# Altium footprint library ip_phone.PcbLib: 69 footprints (part 4 of 5)
Each footprint in its own frame and in the unit in brackets; x right, y up, seen from the top. Pads: shape width x height; smd on the part's side, far side on the other; paste and mask are expansions set on the pad; w line width, h text height; cw(c..) or ccw(c..) is an arc to the next point about the centre after c.
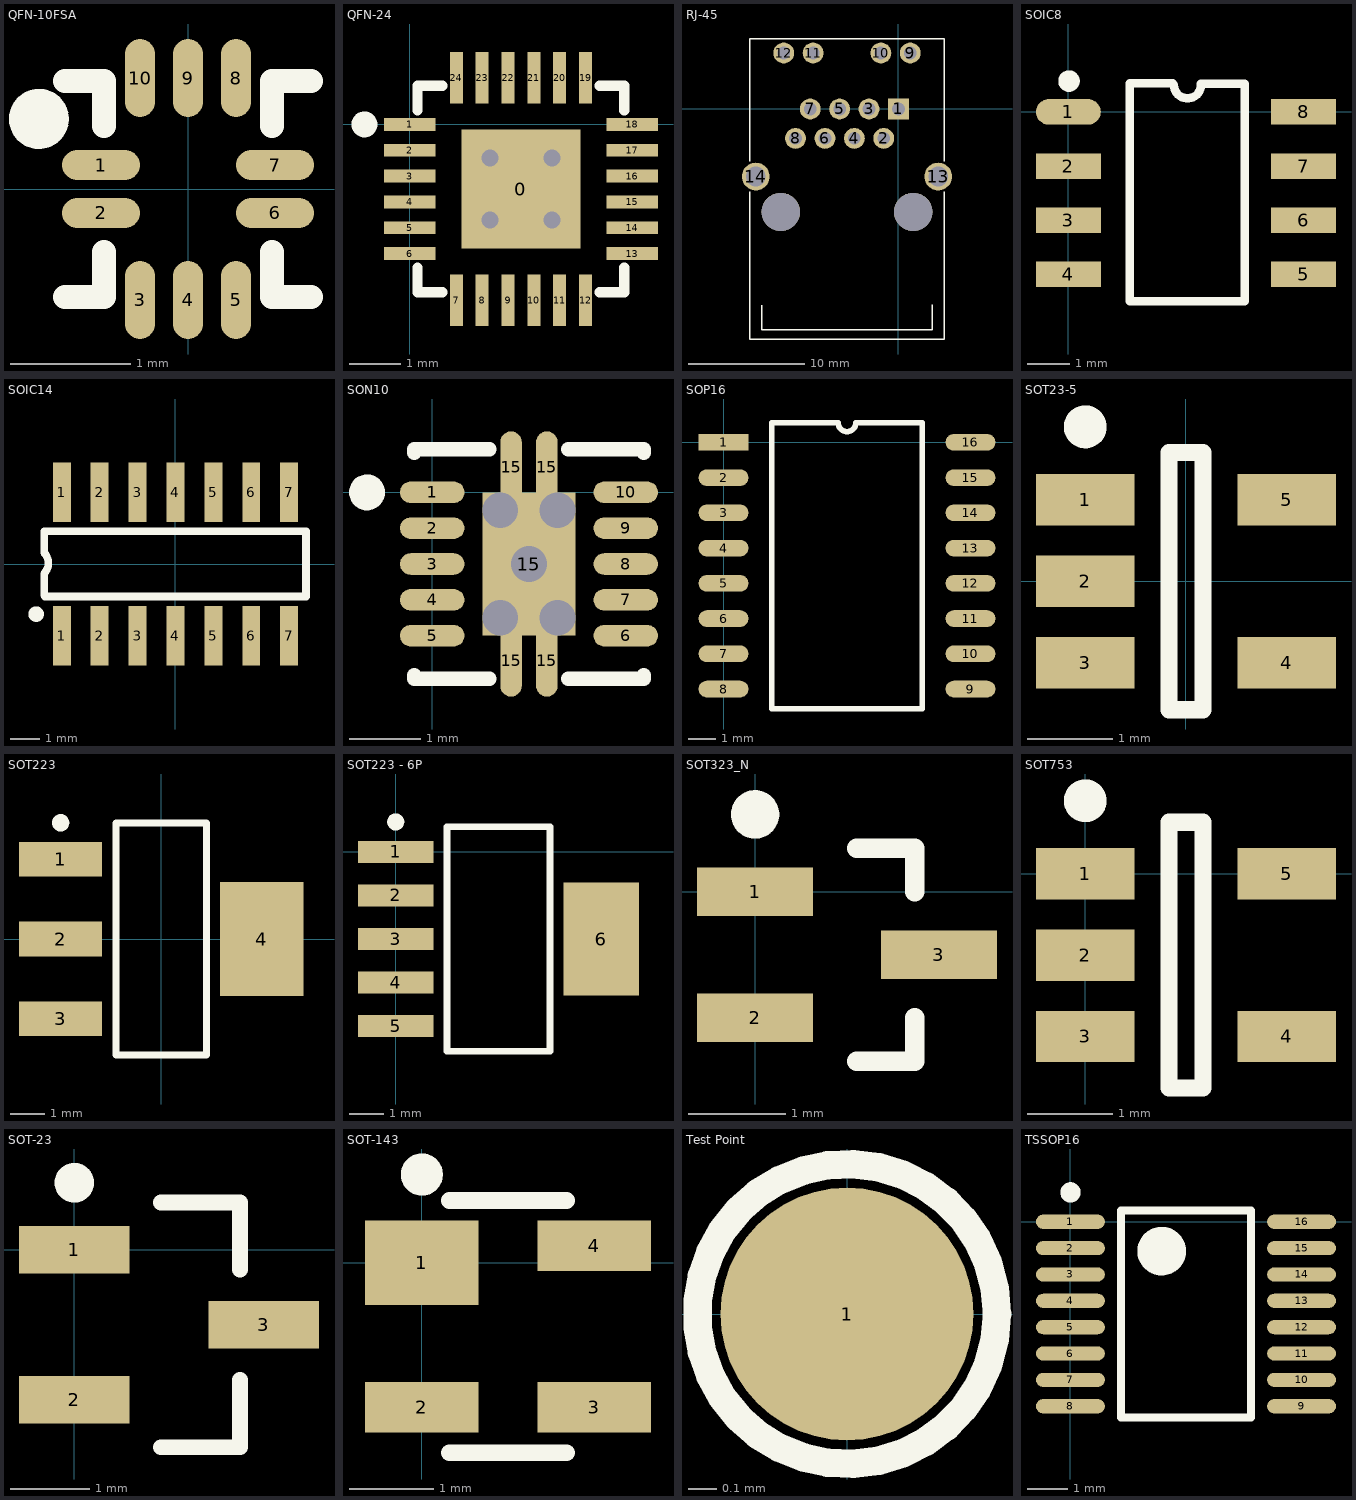
[diagram p3: the footprints below, top view; thin cyan lines are the x and y axes]

## QFN-10FSA [mm]
height 0.55
pads (10):
  oval 0.65x0.25 smd: 1(-0.725,0.2) 2(-0.725,-0.2) 6(0.725,-0.2) 7(0.725,0.2)
  oval 0.25x0.65 smd: 3(-0.4,-0.925) 4(0,-0.925) 5(0.4,-0.925) 8(0.4,0.925) 9(0,0.925) 10(-0.4,0.925)
Top Overlay:
  circle w0.25: c-1.243,0.584 r0.125
  lines w0.2: -1.025,-0.9 -0.7,-0.9 -0.7,-0.525 ; -1.025,0.9 -0.7,0.9 -0.7,0.525 ; 0.7,-0.525 0.7,-0.9 1.025,-0.9 ; 0.7,0.525 0.7,0.9 1.025,0.9

## QFN-24 [mm] "ADP5588"
height 1
pads (25):
  rect 2.3x2.3 smd: 0(2.152,-1.25)
  rect 1x0.25 smd: 1(0,0) 2(0,-0.5) 3(0,-1) 4(0,-1.5) 5(0,-2) 6(0,-2.5) 13(4.304,-2.5) 14(4.304,-2) 15(4.304,-1.5) 16(4.304,-1) 17(4.304,-0.5) 18(4.304,0)
  rect 0.25x1 smd: 7(0.902,-3.402) 8(1.402,-3.402) 9(1.902,-3.402) 10(2.402,-3.402) 11(2.902,-3.402) 12(3.402,-3.402) 19(3.402,0.902) 20(2.902,0.902) 21(2.402,0.902) 22(1.902,0.902) 23(1.402,0.902) 24(0.902,0.902)
via 2.752,-0.65 diameter 0.66 hole 0.33
via 1.552,-0.65 diameter 0.66 hole 0.33
via 1.552,-1.85 diameter 0.66 hole 0.33
via 2.752,-1.85 diameter 0.66 hole 0.33
Top Overlay:
  circle w0.25: c-0.875,0 r0.125
  lines w0.2: 0.152,-2.775 0.152,-3.25 0.627,-3.25 ; 0.152,0.275 0.152,0.75 0.627,0.75 ; 3.677,-3.25 4.152,-3.25 4.152,-2.775 ; 3.677,0.75 4.152,0.75 4.152,0.275

## RJ-45 [mm]
height 13.97
pads (16):
  rect 1.8x1.8 hole 1.1: 1(0,0)
  round 1.8 hole 1.1: 2(-1.27,-2.54) 3(-2.54,0) 4(-3.81,-2.54) 5(-5.08,0) 6(-6.35,-2.54) 7(-7.62,0) 8(-8.89,-2.54) 9(1.02,4.83) 10(-1.52,4.83) 11(-7.37,4.83) 12(-9.91,4.83)
  round 2.4 hole 1.71: 13(3.43,-5.84) 14(-12.32,-5.84)
  round 3.3 hole 3.3: ""(-10.16,-8.89) ""(1.27,-8.89)
Top Overlay:
  lines w0.127: -12.829,-7.163 -12.829,-19.868 3.939,-19.868 3.939,-7.163 ; -12.829,-4.496 -12.829,6.04 3.939,6.04 3.939,-4.496 ; -11.825,-16.955 -11.825,-19.08 2.935,-19.08 2.935,-16.905

## SOIC8 [mm]
pads (8):
  oval 1.52x0.6 smd mask+0.076: 1(0,0)
  rect 1.52x0.6 smd mask+0.076: 2(0,-1.27) 3(0,-2.54) 4(0,-3.81) 5(5.52,-3.81) 6(5.52,-2.54) 7(5.52,-1.27) 8(5.52,0)
Top Overlay:
  circle w0.254: c0.015,0.724 r0.125
  lines w0.2: 2.451,0.673 1.435,0.673 1.435,-4.445 4.14,-4.445 4.14,0.66 3.111,0.66 ; 2.476,0.635 ccw(c2.794,0.635) 3.111,0.635

## SOIC14 [mm]
pads (14):
  rect 0.6x2 smd: 1(-3.81,-2.4) 1(-3.81,2.4) 2(-2.54,-2.4) 2(-2.54,2.4) 3(-1.27,-2.4) 3(-1.27,2.4) 4(0,-2.4) 4(0,2.4) 5(1.27,-2.4) 5(1.27,2.4) 6(2.54,-2.4) 6(2.54,2.4) 7(3.81,-2.4) 7(3.81,2.4)
Top Overlay:
  circle w0.254: c-4.671,-1.681 r0.132
  lines w0.254: -4.404,-1.044 -4.404,-0.32 ccw(c-4.752,0.028) -4.404,0.376 -4.404,1.1 -4.372,1.1 0.003,1.1 ; -4.372,-1.09 0.003,-1.09 ; 0,-1.09 4.375,-1.09 4.375,1.1 0,1.1

## SON10 [mm] "SON, 14-Leads, Body 3,2x3,2mm (max), Pitch 0,50mm, IPC Medium Density"
height 1
pads (15):
  oval 0.9x0.3 smd: 1(0,0) 2(0,-0.5) 3(0,-1) 4(0,-1.5) 5(0,-2) 6(2.7,-2) 7(2.7,-1.5) 8(2.7,-1) 9(2.7,-0.5) 10(2.7,0)
  oval 0.3x1 smd: 15(1.1,-2.35) 15(1.1,0.35) 15(1.6,-2.35) 15(1.6,0.35)
  rect 1.3x2 smd: 15(1.35,-1)
via 1.75,-1.75 diameter 0.5 hole 0.5
via 1.35,-1 diameter 0.5 hole 0.5
via 0.95,-1.75 diameter 0.5 hole 0.5
via 0.95,-0.25 diameter 0.5 hole 0.5
via 1.75,-0.25 diameter 0.5 hole 0.5
Top Overlay:
  circle w0.25: c-0.91,-0.001 r0.125
  lines w0.2: -0.25,-2.55 -0.25,-2.6 0.8,-2.6 ; -0.25,0.55 -0.25,0.6 0.8,0.6 ; 1.9,-2.6 2.95,-2.6 2.95,-2.55 ; 1.9,0.6 2.95,0.6 2.95,0.55
3D body: height 0.92, standoff 0.02, extent -0.15,-2.5 2.85,0.5

## SOP16 [mm]
pads (16):
  rect 1.8x0.6 smd: 1(0,0)
  oval 1.8x0.6 smd: 2(0,-1.27) 3(0,-2.54) 4(0,-3.81) 5(0,-5.08) 6(0,-6.35) 7(0,-7.62) 8(0,-8.89) 9(8.9,-8.89) 10(8.9,-7.62) 11(8.9,-6.35) 12(8.9,-5.08) 13(8.9,-3.81) 14(8.9,-2.54) 15(8.9,-1.27) 16(8.9,0)
Top Overlay:
  lines w0.2: 1.735,-9.595 1.735,0.705 4.132,0.705 ccw(c4.45,0.705) 4.767,0.705 7.165,0.705 7.165,-9.595 1.735,-9.595

## SOT23-5 [mm] "SOT23, 5-Leads, Body 3,0x3,0mm (max), Pitch 0,95mm, IPC Medium Density"
height 1.1
pads (5):
  rect 1.15x0.6 smd: 1(-1.175,0.95) 2(-1.175,0) 3(-1.175,-0.95) 4(1.175,-0.95) 5(1.175,0.95)
Top Overlay:
  circle w0.25: c-1.175,1.8 r0.125
  lines w0.2: -0.2,-1.5 -0.2,1.5 0.2,1.5 0.2,-1.5 -0.2,-1.5
3D body: height 1.1, standoff 0.05, extent -0.75,-1.5 0.75,1.5

## SOT223 [mm] "SOT223, 4-Leads, Body 6,7x7,3mm (max), Pitch 2,30mm, IPC Medium Density"
height 1.8
pads (4):
  rect 2.4x1 smd: 1(-2.9,2.3) 2(-2.9,0) 3(-2.9,-2.3)
  rect 2.4x3.3 smd: 4(2.9,0)
Top Overlay:
  circle w0.25: c-2.9,3.35 r0.125
  lines w0.2: -1.3,-3.35 1.3,-3.35 1.3,3.35 -1.3,3.35 -1.3,-3.35
3D body: height 1.8, standoff 0.02, extent -1.85,-3.35 1.85,3.35

## SOT223 - 6P [mm]
height 1.8
pads (6):
  rect 2.2x0.65 smd: 1(0,0) 2(0,-1.27) 3(0,-2.54) 4(0,-3.81) 5(0,-5.08)
  rect 2.2x3.3 smd: 6(6,-2.54)
Top Overlay:
  circle w0.25: c0,0.875 r0.125
  lines w0.2: 1.5,-5.815 4.5,-5.815 4.5,0.735 1.5,0.735 1.5,-5.815

## SOT323_N [mm] "SOT323, 3-Leads, Body 2.0x1.3mm, Pitch 0.65mm, Lead Span 2.1mm, IPC Medium Density"
height 1.1
pads (3):
  rect 1.2x0.5 smd: 1(0,0) 2(0,-1.3) 3(1.9,-0.65)
Top Overlay:
  circle w0.25: c0,0.8 r0.125
  lines w0.2: 1.05,-1.75 1.65,-1.75 1.65,-1.3 ; 1.05,0.45 1.65,0.45 1.65,0

## SOT753 [mm] "SOT23, 5-Leads, Body 3,1x3,0mm (max), Pitch 0,95mm, IPC Medium Density"
height 1.1
pads (5):
  rect 1.15x0.6 smd: 1(0,0) 2(0,-0.95) 3(0,-1.9) 4(2.35,-1.9) 5(2.35,0)
Top Overlay:
  circle w0.25: c0,0.85 r0.125
  lines w0.2: 0.975,-2.5 1.375,-2.5 1.375,0.6 0.975,0.6 0.975,-2.5

## SOT-23 [mm] "AME8800AEETZ"
height 1.55
pads (3):
  rect 1.4x0.6 smd: 1(0,0) 2(0,-1.9) 3(2.4,-0.95)
Top Overlay:
  circle w0.25: c0,0.85 r0.125
  lines w0.2: 1.1,-2.5 2.1,-2.5 2.1,-1.65 ; 1.1,0.6 2.1,0.6 2.1,-0.25

## SOT-143 [mm] "CAT811S"
height 1.22
pads (4):
  rect 1.35x1 smd: 1(0,0)
  rect 1.35x0.6 smd: 2(0,-1.72) 3(2.05,-1.72) 4(2.05,0.2)
Top Overlay:
  circle w0.25: c0,1.05 r0.125
  lines w0.2: 0.325,-2.26 1.725,-2.26 ; 0.325,0.74 1.725,0.74

## Test Point [mm]
pads (1):
  round 0.9 smd: 1(0,0)
Top Overlay:
  circle w0.102: c0,0 r0.534

## TSSOP16 [mm] "TSOP, 16-Leads, Body 5,1x4,5mm (max), Pitch 0,65mm, IPC Medium Density"
height 1.1
pads (16):
  oval 1.7x0.35 smd: 1(0,0) 2(0,-0.65) 3(0,-1.3) 4(0,-1.95) 5(0,-2.6) 6(0,-3.25) 7(0,-3.9) 8(0,-4.55) 9(5.7,-4.55) 10(5.7,-3.9) 11(5.7,-3.25) 12(5.7,-2.6) 13(5.7,-1.95) 14(5.7,-1.3) 15(5.7,-0.65) 16(5.7,0)
Top Overlay:
  circle w0.6: c2.25,-0.725 r0.3
  circle w0.25: c0,0.725 r0.125
  lines w0.2: 1.25,-4.825 4.45,-4.825 4.45,0.275 1.25,0.275 1.25,-4.825
3D body: height 1.1, standoff 0.05, extent 0.6,-4.825 5.1,0.275